# Altium schematic symbol library VOLTAGE_REGULATORS_LINEAR.SchLib: 1 symbol
Pins are listed as number, name and electrical type; pins without a type are passive.

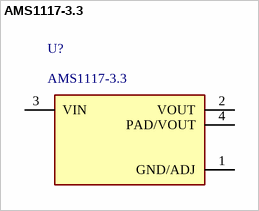
[diagram p0: symbol AMS1117-3.3]

## AMS1117-3.3
designator U?
Fixed Positive LDO Regulator, 3.3V, 1.3V Dropout, PDSO3; Manufacturer: Advanced Monolithic Systems; Supplier: LCSC; Supplier Part Number: C6186; Manufacturer Part Number: AMS1117-3.3; RoHS: Yes; Category: Voltage Regulators - Linear; Stock: 618578; Pricing: 5=0.1434, 50=0.1148, 150=0.1007, 500=0.0882, 2500=0.0848, 5000=0.0827 (USD); RoHS Compliant: Yes
footprint FP-AMS1117-IPC_A (Fixed Positive LDO Regulator, 3.3V, 1.3V Dropout, PDSO3)
footprint FP-AMS1117-IPC_B (Fixed Positive LDO Regulator, 3.3V, 1.3V Dropout, PDSO3)
footprint FP-AMS1117-IPC_C (Fixed Positive LDO Regulator, 3.3V, 1.3V Dropout, PDSO3)
pins: 1 GND/ADJ (power), 2 VOUT, 3 VIN (power), 4 PAD/VOUT